# Altium footprint library ComponentLibrary.PcbLib: 153 footprints (part 4 of 10)
Each footprint in its own frame and in the unit in brackets; x right, y up, seen from the top. Pads: shape width x height; smd on the part's side, far side on the other; paste and mask are expansions set on the pad; w line width, h text height; cw(c..) or ccw(c..) is an arc to the next point about the centre after c.
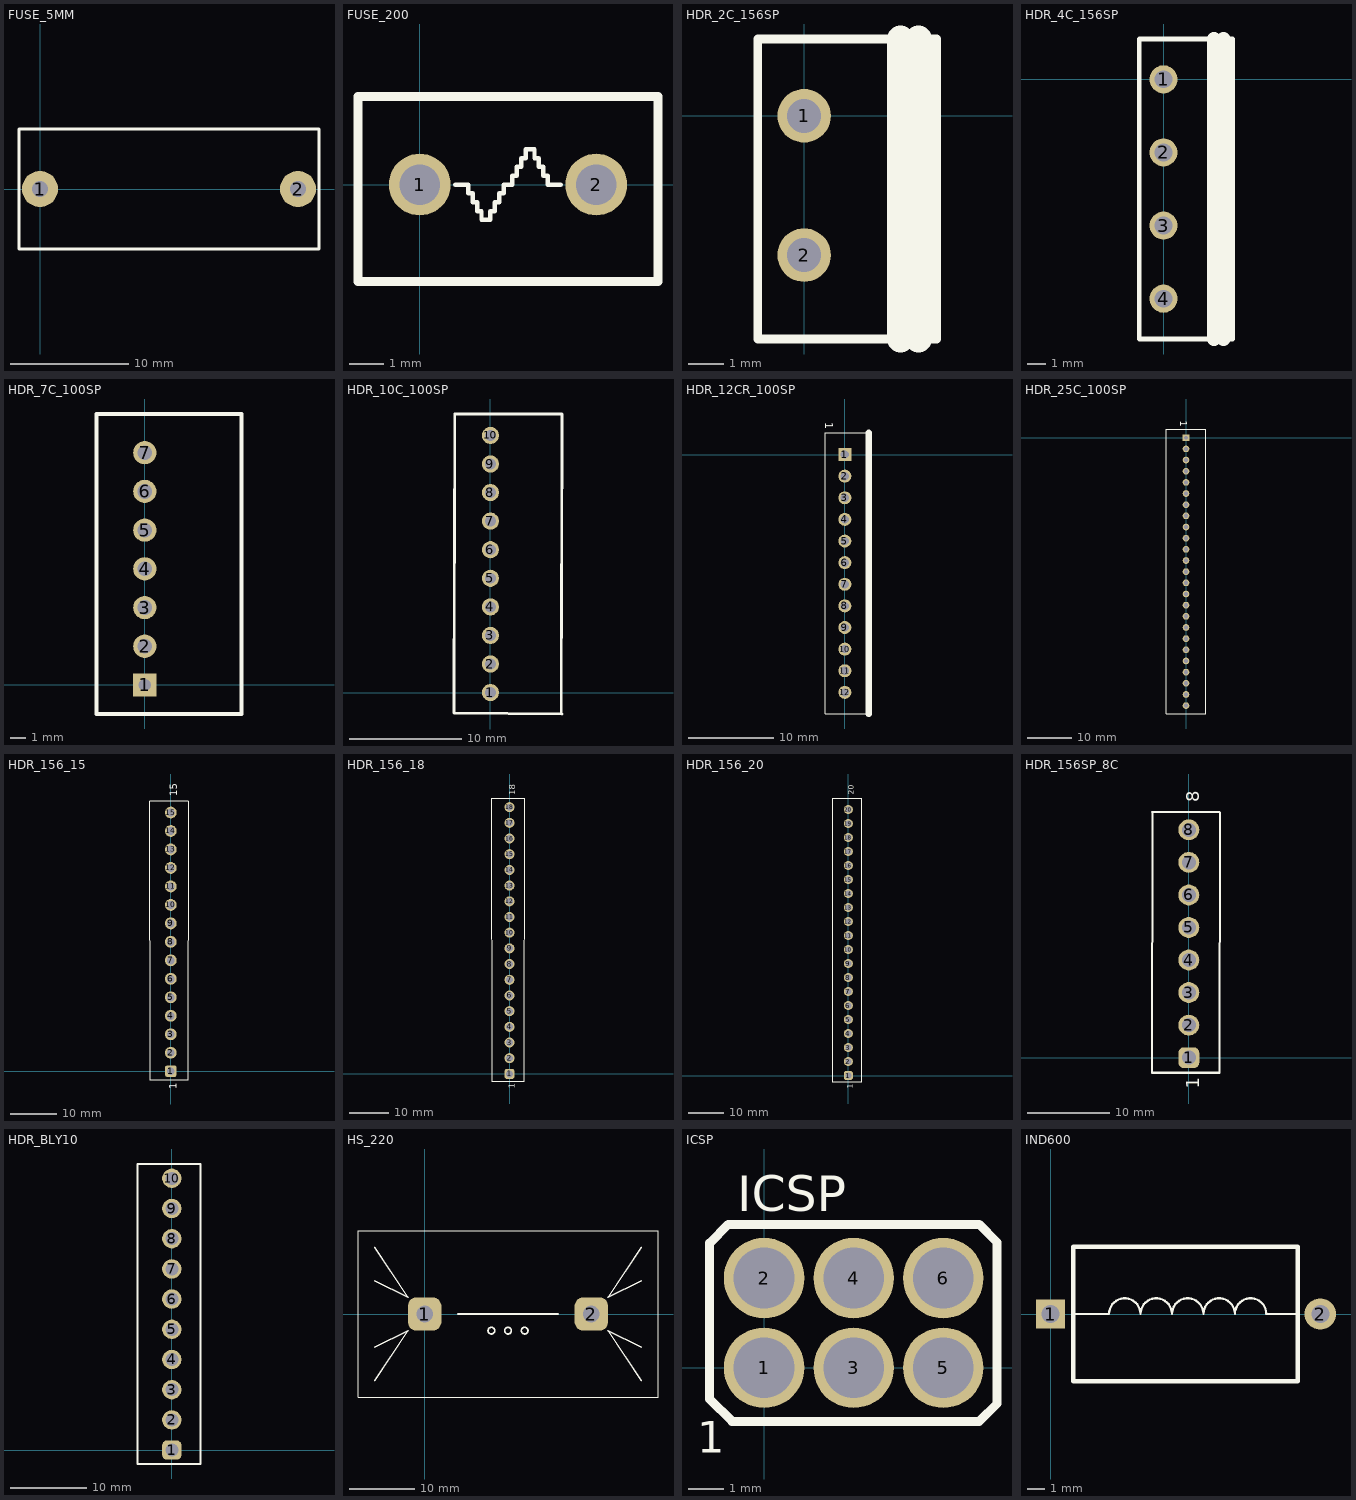
[diagram p3: the footprints below, top view; thin cyan lines are the x and y axes]

## FUSE_5MM [mil]
pads (2):
  round 120 hole 52: 1(0,0) 2(860,0)
Top Overlay:
  lines w10: -70,-200 930,-200 930,200 -70,200 -70,-200

## FUSE_200 [mil]
pads (2):
  round 70 hole 46: 1(0,0) 2(200,0)
Top Overlay:
  lines w5: 40,0 50,0 55,0 55,-10 60,-10 60,-20 65,-20 65,-30 70,-30 70,-40 80,-40 80,-30 85,-30 85,-20 90,-20 90,-10 95,-10 95,0 105,0 105,10 110,10 110,20 115,20 115,30 120,30 120,40 130,40 130,30 135,30 135,20 140,20 140,10 145,10 145,0 150,0 160,0
  lines w10: -70,-110 270,-110 270,100 -70,100 -70,-110

## HDR_2C_156SP [mil]
pads (2):
  round 60 hole 38: 1(0,0) 2(0,-156)
Top Overlay:
  lines w10: -52,-250 -52,86 148,86 148,-250 -52,-250
  lines w30: 108,-250 108,86 ; 128,-250 128,86

## HDR_4C_156SP [mil]
pads (4):
  round 60 hole 38: 1(0,0) 2(0,-156) 3(0,-312) 4(0,-468)
Top Overlay:
  lines w10: -52,-554 -52,86 148,86 148,-554 -52,-554
  lines w30: 108,-554 108,86 ; 128,-554 128,86

## HDR_7C_100SP [mil]
pads (7):
  rect 60x60 hole 32: 1(0,0)
  round 60 hole 38: 2(0,100) 3(0,200) 4(0,300) 5(0,400) 6(0,500) 7(0,600)
Top Overlay:
  lines w10: -125,-75 250,-75 ; -125,-72 -125,700 250,700 250,-72

## HDR_10C_100SP [mil]
pads (10):
  round 60 hole 38: 1(0,0) 2(0,100) 3(0,200) 4(0,300) 5(0,400) 6(0,500) 7(0,600) 8(0,700) 9(0,800) 10(0,900)
Top Overlay:
  lines w10: 248,-72 250,975 -125,975 -127,-72 250,-75

## HDR_12CR_100SP [mil]
pads (12):
  rect 60x60 hole 38: 1(0,0)
  round 60 hole 38: 2(0,-100) 3(0,-200) 4(0,-300) 5(0,-400) 6(0,-500) 7(0,-600) 8(0,-700) 9(0,-800) 10(0,-900) 11(0,-1000) 12(0,-1100)
Top Overlay:
  lines w5: 110,-1200 -90,-1200 -90,100 110,100
  lines w30: 110,-1200 110,100
  text "1" at -90,150 h37.5

## HDR_25C_100SP [mil]
pads (25):
  rect 60x60 hole 35: 1(0,0)
  round 60 hole 38: 2(0,-100) 3(0,-200) 4(0,-300) 5(0,-400) 6(0,-500) 7(0,-600) 8(0,-700) 9(0,-800) 10(0,-900) 11(0,-1000) 12(0,-1100) 13(0,-1200) 14(0,-1300) 15(0,-1400) 16(0,-1500) 17(0,-1600) 18(0,-1700) 19(0,-1800) 20(0,-1900) 21(0,-2000) 22(0,-2100) 23(0,-2200) 24(0,-2300) 25(0,-2400)
Top Overlay:
  lines w10: -175,-2475 -175,75 175,75 175,-2475 -175,-2475
  text "1" at -50,150 h62.5

## HDR_156_15 [mil]
pads (15):
  rrect50% 100x100 hole 67: 1(0,0)
  round 100 hole 67: 2(0,156) 3(0,312) 4(0,468) 5(0,624) 6(0,780) 7(0,936) 8(0,1092) 9(0,1248) 10(0,1404) 11(0,1560) 12(0,1716) 13(0,1872) 14(0,2028) 15(0,2184)
Top Overlay:
  lines w10: -180,2280 -177,-72 148,-72 150,2280 ; -177,2283 148,2283
  text "15" at 55,2320 h62.5
  text "1" at 50,-150 h62.5

## HDR_156_18 [mil]
pads (18):
  rrect50% 100x100 hole 67: 1(0,0)
  round 100 hole 67: 2(0,156) 3(0,312) 4(0,468) 5(0,624) 6(0,780) 7(0,936) 8(0,1092) 9(0,1248) 10(0,1404) 11(0,1560) 12(0,1716) 13(0,1872) 14(0,2028) 15(0,2184) 16(0,2340) 17(0,2496) 18(0,2652)
Top Overlay:
  lines w10: -180,2740 -177,-72 148,-72 150,2740 ; -177,2743 148,2743
  text "18" at 55,2770 h62.5
  text "1" at 50,-150 h62.5

## HDR_156_20 [mil]
pads (20):
  rrect50% 100x100 hole 67: 1(0,0)
  round 100 hole 67: 2(0,156) 3(0,312) 4(0,468) 5(0,624) 6(0,780) 7(0,936) 8(0,1092) 9(0,1248) 10(0,1404) 11(0,1560) 12(0,1716) 13(0,1872) 14(0,2028) 15(0,2184) 16(0,2340) 17(0,2496) 18(0,2652) 19(0,2808) 20(0,2964)
Top Overlay:
  lines w10: -180,3090 -177,-72 148,-72 150,3090 ; -177,3088 148,3088
  text "20" at 60,3130 h62.5
  text "1" at 50,-150 h62.5

## HDR_156SP_8C [mil]
pads (8):
  rrect50% 100x100 hole 67: 1(0,0)
  round 100 hole 67: 2(0,156) 3(0,312) 4(0,468) 5(0,624) 6(0,780) 7(0,936) 8(0,1092)
Top Overlay:
  lines w10: -177,1178 148,1178 ; -175,1175 -177,-72 148,-72 150,1175
  text "1" at 50,-150 h62.5
  text "8" at 50,1225 h62.5

## HDR_BLY10 [mil]
pads (10):
  rrect50% 100x100 hole 67: 1(0,0)
  round 100 hole 67: 2(0,156) 3(0,312) 4(0,468) 5(0,624) 6(0,780) 7(0,936) 8(0,1092) 9(0,1248) 10(0,1404)
Top Overlay:
  lines w10: -177,-72 -177,1478 148,1478 148,-72 -177,-72

## HS_220 [mil]
pads (2):
  rrect50% 200x200 hole 100: 1(0,0) 2(1000,0)
Top Overlay:
  circle w10: c500,-100 r20
  circle w10: c600,-100 r20
  circle w10: c400,-100 r20
  lines w5: -400,-500 1400,-500 1400,500 -400,500 -400,-500
  lines w10: -300,-400 -100,-100 -300,-200 ; -300,200 -100,100 -300,400 ; 200,0 800,0 ; 1300,-400 1100,-100 1300,-200 ; 1300,200 1100,100 1300,400

## ICSP [mil] "In-Circuit Serial Programming Header (PIC)"
pads (6):
  round 90 hole 68: 1(0,0) 2(0,100) 3(100,0) 4(100,100) 5(200,0) 6(200,100)
Top Overlay:
  lines w10: -60.83,-35 -35.83,-60 240,-60 260,-40 260,140 240,160 -40,160 -60.83,139.17 -60.83,-35
  text "ICSP" at -30,175 h40
  text "1" at -75,-95 h35

## IND600 [mil]
pads (2):
  rect 65x65 hole 40: 1(0,0)
  round 70 hole 40: 2(600,0)
Top Overlay:
  lines w5: 50,0 130,0 cw(c165,0) 200,0 cw(c235,0) 270,0 cw(c305,0) 340,0 cw(c375,0) 410,0 cw(c445,0) 480,0 550,0
  lines w10: 50,-150 550,-150 550,150 50,150 50,-150